# Altium schematic symbol library SCH - ARM CORTEX - NXP LPC804M101JDH24.SchLib: 1 symbol
Pins are listed as number, name and electrical type; pins without a type are passive.

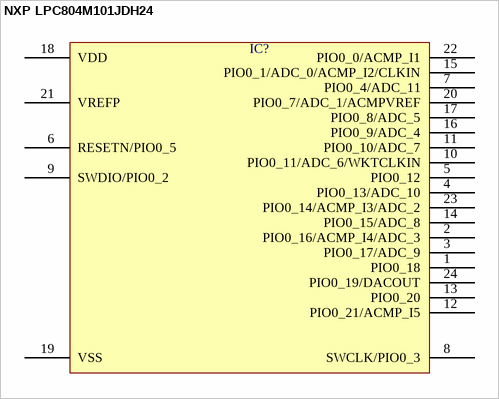
[diagram p0: symbol NXP LPC804M101JDH24]

## NXP LPC804M101JDH24
designator IC?  (value not drawn)
pins: 1 PIO0_18, 2 PIO0_16/ACMP_I4/ADC_3, 3 PIO0_17/ADC_9, 4 PIO0_13/ADC_10, 5 PIO0_12, 6 RESETN/PIO0_5, 7 PIO0_4/ADC_11, 8 SWCLK/PIO0_3, 9 SWDIO/PIO0_2, 10 PIO0_11/ADC_6/WKTCLKIN, 11 PIO0_10/ADC_7, 12 PIO0_21/ACMP_I5, 13 PIO0_20, 14 PIO0_15/ADC_8, 15 PIO0_1/ADC_0/ACMP_I2/CLKIN, 16 PIO0_9/ADC_4, 17 PIO0_8/ADC_5, 18 VDD, 19 VSS, 20 PIO0_7/ADC_1/ACMPVREF, 21 VREFP, 22 PIO0_0/ACMP_I1, 23 PIO0_14/ACMP_I3/ADC_2, 24 PIO0_19/DACOUT